# Altium footprint library pir.PcbLib: 22 footprints (part 2 of 2)
Each footprint in its own frame and in the unit in brackets; x right, y up, seen from the top. Pads: shape width x height; smd on the part's side, far side on the other; paste and mask are expansions set on the pad; w line width, h text height; cw(c..) or ccw(c..) is an arc to the next point about the centre after c.
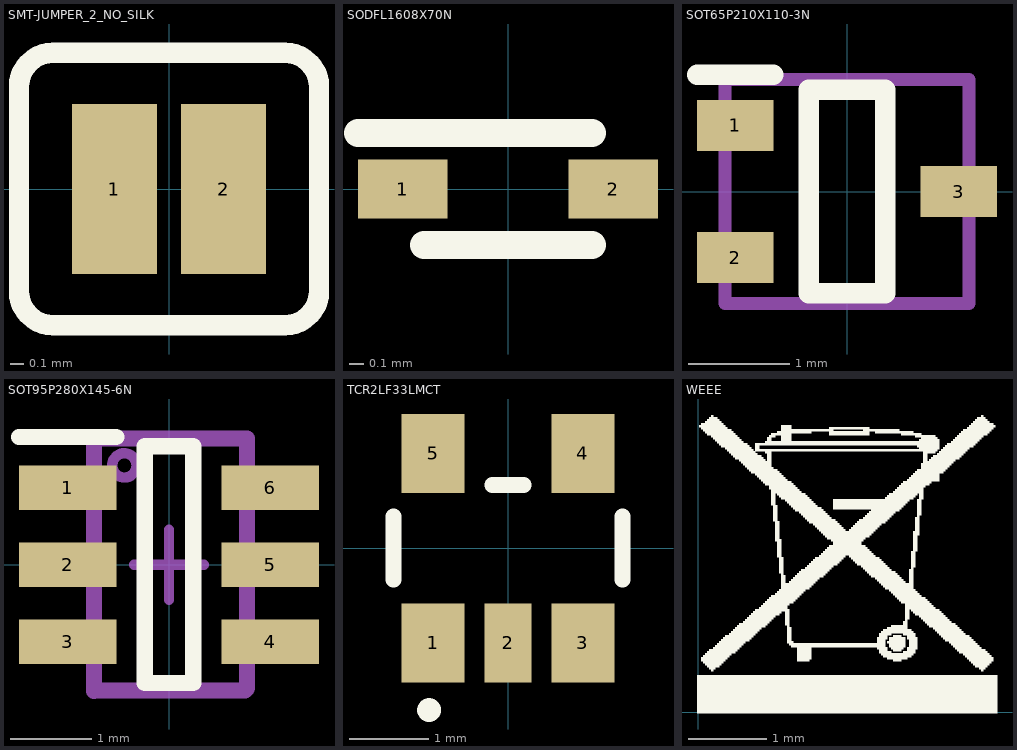
[diagram p1: the footprints below, top view; thin cyan lines are the x and y axes]

## SMT-JUMPER_2_NO_SILK [mil] "SMT-JUMPER_2_NO_SILK"
pads (2):
  rect 25x50 smd paste+0: 1(-16,0) 2(16,0)
Top Overlay:
  lines w6: -44,-30 ccw(c-34,-30) -34,-40 34,-40 ccw(c34,-30) 44,-30 44,30 ccw(c34,30) 34,40 -34,40 ccw(c-34,30) -44,30 -44,-30

## SODFL1608X70N [mil] "SODFL1608X70N"
pads (2):
  rect 25.2x16.54 smd: 1(-29.53,0) 2(29.53,0)
Top Overlay:
  lines w7.87: -42.13,15.75 23.62,15.75 ; -23.62,-15.75 23.62,-15.75
3D body "SOD-523_0P9X1P3_ONS.step": height 18.27, standoff 0, extent -33.5,-17.48 33.5,17.48

## SOT65P210X110-3N [mm] "SOT65P210X110-3N"
pads (3):
  rect 0.75x0.5 smd: 1(-1.1,0.65) 2(-1.1,-0.65) 3(1.1,0)
Top Overlay:
  lines w0.2: -1.475,1.15 -0.725,1.15 ; -0.375,-1 0.375,-1 0.375,1 -0.375,1 -0.375,-1
Mechanical 13:
  circle w0.127: c-1,0.8 r0.028
  lines w0.127: -1.2,-1.1 1.2,-1.1 1.2,1.1 -1.2,1.1 -1.2,-1.1
  text ".designator" at -1,-1.25 h0.64
3D body "SC-70.stp": height 1.1, standoff 0, extent -1.2,-1.1 1.2,1.1

## SOT95P280X145-6N [mil] "SOT95P280X145-6N"
pads (6):
  rect 47.24x21.65 smd: 1(-49.21,37.4) 2(-49.21,0) 3(-49.21,-37.4) 4(49.21,-37.4) 5(49.21,0) 6(49.21,37.4)
Top Overlay:
  lines w7.87: -72.83,62.01 -25.59,62.01 ; -11.81,-57.48 11.81,-57.48 11.81,57.48 -11.81,57.48 -11.81,-57.48
Mechanical 13:
  circle w5: c-21.65,48.23 r5.91
  lines w5: -17.01,0 0,0 ; 0,-17.01 0,0 ; 0,17 0,0 ; 17.01,0 0,0
  lines w7.87: -36.65,61.3 37.85,61.3 37.85,-60 36.85,-61 -36.05,-61 -36.35,-61.3 -36.35,61 -36.65,61.3
  text ".designator" at 15,52 h15.75
3D body "SOT23-6.stp": height 43.8, standoff -2.84, extent -55.81,-59.06 55.82,59.05

## TCR2LF33LMCT [mm] "TCR2LF33LMCT"
pads (5):
  rect 0.8x1 smd: 1(-0.95,-1.2) 3(0.95,-1.2) 4(0.95,1.2) 5(-0.95,1.2)
  rect 0.6x1 smd: 2(0,-1.2)
Top Overlay:
  lines w0.2: -1.45,-0.4 -1.45,0.4 ; -0.2,0.8 0.2,0.8 ; 1.45,-0.4 1.45,0.4 ; -1,-2.1 ccw(c-1,-2.05) -1,-2 ; -1,-2.1 cw(c-1,-2.05) -1,-2 ; -1,-2.1 ccw(c-1,-2.05) -1,-2
3D body "SOT-23-5.stp": height 1.18, standoff 0.01, extent -1.464,-1.4 1.524,1.4

## WEEE [mil] "WEEE"
Top Overlay:
  drawing of 457 lines, arcs and shapes, not listed